# Altium schematic symbol library SCH - POWER - SWITCHMODE - TI TPS53114PWPR.SchLib: 1 symbol
Pins are listed as number, name and electrical type; pins without a type are passive.

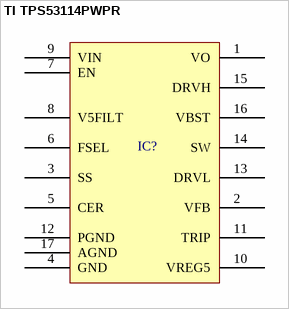
[diagram p0: symbol TI TPS53114PWPR]

## TI TPS53114PWPR
designator IC?
pins: 1 VO, 2 VFB, 3 SS, 4 GND, 5 CER, 6 FSEL, 7 EN, 8 V5FILT, 9 VIN, 10 VREG5, 11 TRIP, 12 PGND, 13 DRVL, 14 SW, 15 DRVH, 16 VBST, 17 AGND